# Altium schematic symbol library DS1302Z+.Schlib: 1 symbol
Pins are listed as number, name and electrical type; pins without a type are passive.

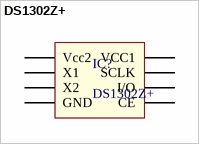
[diagram p0: symbol DS1302Z+]

## DS1302Z+
designator IC?
Realtime clock IC
pins: 1 Vcc2, 2 X1, 3 X2, 4 GND, 5 CE, 6 I/O, 7 SCLK, 8 VCC1